# EAGLE library part AS-ITM-00407 (library tinycircuits)
CONN HDR 10 POS 2.54MM SOLDER Custom
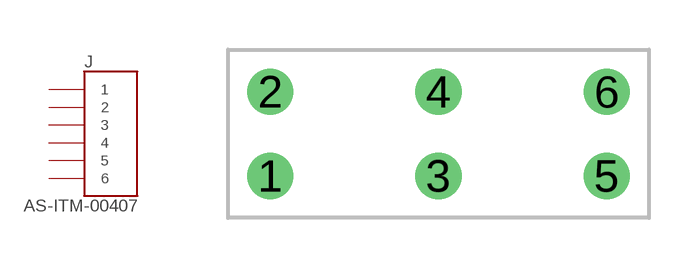
[diagram p167: symbol with the pads of 2X5_0.1"CUSTOM; footprint 2X5_0.1"CUSTOM]

Designator prefix J

## AS-ITM-00407 (PARTNO: AS-ITM-00407; VALUE: 6POS)  [2X5_0.1"CUSTOM]
1  1
2  2
3  3
4  4
5  5
6  6

## Footprint 2X5_0.1"CUSTOM (pad centres in mm)
drill 0.889 pad 1.397: 1 -5.08,-1.27; 2 -5.08,1.27; 3 0,-1.27; 4 0,1.27; 5 5.08,-1.27; 6 5.08,1.27